# EAGLE library part PIN_HEADER_MALE_L_2X07_14P (library 180118 Library by matsu)
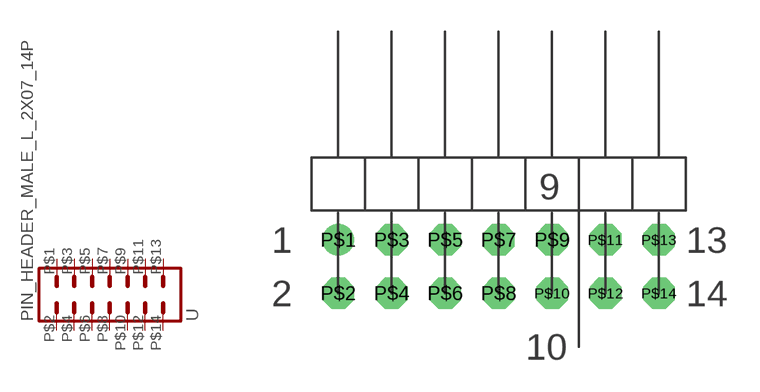
[diagram p11: symbol with the pads of PIN_HEADER_MALE_L_2X07_14P; footprint PIN_HEADER_MALE_L_2X07_14P]

Designator prefix -

## PIN_HEADER_MALE_L_2X07_14P  [PIN_HEADER_MALE_L_2X07_14P]
P$1  P$1
P$2  P$2
P$3  P$3
P$4  P$4
P$5  P$5
P$6  P$6
P$7  P$7
P$8  P$8
P$9  P$9
P$10  P$10
P$11  P$11
P$12  P$12
P$13  P$13
P$14  P$14

## Footprint PIN_HEADER_MALE_L_2X07_14P (pad centres in mm)
drill 1: P$1 -7.62,1.27
drill 1 octagon: P$2 -7.62,-1.27; P$3 -5.08,1.27; P$4 -5.08,-1.27; P$5 -2.54,1.27; P$6 -2.54,-1.27; P$7 0,1.27; P$8 0,-1.27; P$9 2.54,1.27; P$10 2.54,-1.27; P$11 5.08,1.27; P$12 5.08,-1.27; P$13 7.62,1.27; P$14 7.62,-1.27